# Altium schematic symbol library Conn_Molex_67068-8000_eec.SchLib: 1 symbol
Pins are listed as number, name and electrical type; pins without a type are passive.

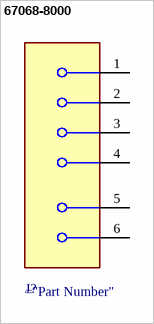
[diagram p0: symbol 67068-8000]

## 67068-8000
designator J?  (value not drawn)
pins: 1, 2, 3, 4, 5 MNT 1, 6 MNT 2